# Altium footprint library LTST-C190KGKT.PcbLib: 3 footprints
Each footprint in its own frame and in the unit in brackets; x right, y up, seen from the top. Pads: shape width x height; smd on the part's side, far side on the other; paste and mask are expansions set on the pad; w line width, h text height; cw(c..) or ccw(c..) is an arc to the next point about the centre after c.
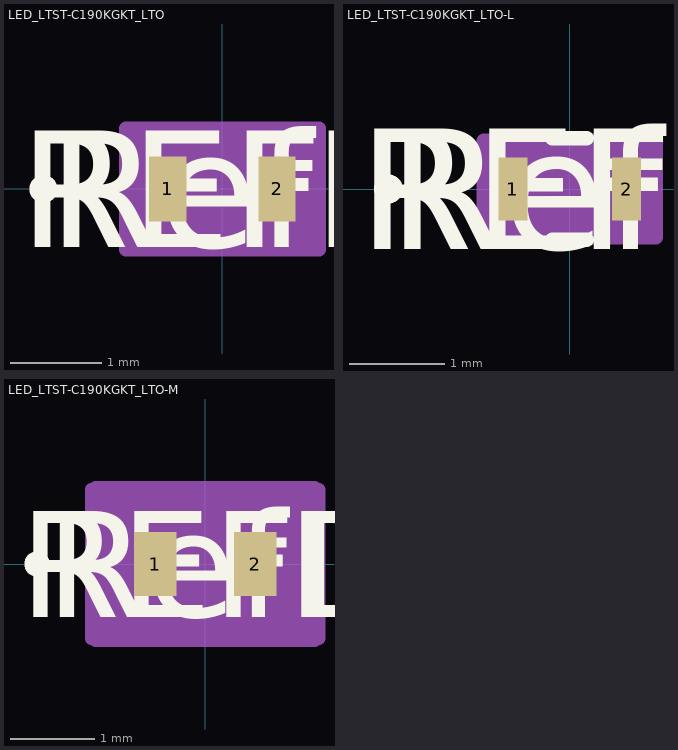
[diagram p0: the footprints below, top view; thin cyan lines are the x and y axes]

## LED_LTST-C190KGKT_LTO [mil]
pads (2):
  rect 16x28 smd paste+0 mask+0: 1(-23.5,0) 2(23.5,0)
Top Overlay:
  circle w6: c-77,0 r3
  text "REFDES" at -87.5,-25 h50
  text "RefDes" at -75,-25 h50
Mechanical 13:
  circle w0: c0,0 r3
  lines w1: -31.5,-16 31.5,-16 31.5,16 -31.5,16 -31.5,-16
  text "RefDes2" at -87.5,-25 h50
Mechanical 15:
  region: -41.5,-24 -41.5,24 -41.5,26 41.5,26 41.5,24 41.5,-24 41.5,-26 -41.5,-26
  lines w6: -41.5,-24 -41.5,24 ; -41.5,-24 -41.5,-24 ; -41.5,-24 -41.5,-26 41.5,-26 41.5,-24 ; -41.5,24 -41.5,24 ; -41.5,24 -41.5,26 41.5,26 41.5,24 ; 41.5,-24 41.5,24 ; 41.5,-24 41.5,-24 ; 41.5,24 41.5,24
3D body "LED_LTST-C190KGKT_LTO.step": height 32.09, standoff 0, extent -31.5,-15.98 31.5,15.98

## LED_LTST-C190KGKT_LTO-L [mil]
pads (2):
  rect 12x26 smd paste+0 mask+0: 1(-23.5,0) 2(23.5,0)
Top Overlay:
  circle w6: c-75,0 r3
  lines w6: -7.13,-21 7.13,-21 ; -7.13,21 7.13,21
  text "REFDES" at -87.5,-25 h50
  text "RefDes" at -75,-25 h50
Mechanical 13:
  circle w0: c0,0 r3
  lines w1: -31.5,-16 31.5,-16 31.5,16 -31.5,16 -31.5,-16
  text "RefDes2" at -87.5,-25 h50
Mechanical 15:
  region: -35.5,-17 -35.5,17 -35.5,20 35.5,20 35.5,17 35.5,-17 35.5,-20 -35.5,-20
  lines w6: -35.5,-17 -35.5,17 ; -35.5,-17 -35.5,-17 ; -35.5,-17 -35.5,-20 35.5,-20 35.5,-17 ; -35.5,17 -35.5,17 ; -35.5,17 -35.5,20 35.5,20 35.5,17 ; 35.5,-17 35.5,17 ; 35.5,-17 35.5,-17 ; 35.5,17 35.5,17
3D body "LED_LTST-C190KGKT_LTO.step": height 32.09, standoff 0, extent -31.5,-15.98 31.5,15.98

## LED_LTST-C190KGKT_LTO-M [mil]
pads (2):
  rect 20x30 smd paste+0 mask+0: 1(-23.5,0) 2(23.5,0)
Top Overlay:
  circle w6: c-79,0 r3
  text "REFDES" at -87.5,-25 h50
  text "RefDes" at -75,-25 h50
Mechanical 13:
  circle w0: c0,0 r3
  lines w1: -31.5,-16 31.5,-16 31.5,16 -31.5,16 -31.5,-16
  text "RefDes2" at -87.5,-25 h50
Mechanical 15:
  region: -51.5,-35 -53.5,-35 -53.5,35 -51.5,35 -51.5,36 51.5,36 51.5,35 53.5,35 53.5,-35 51.5,-35 51.5,-36 -51.5,-36
  lines w6: -53.5,-35 -53.5,35 -51.5,35 -51.5,36 51.5,36 51.5,35 53.5,35 53.5,-35 51.5,-35 51.5,-36 -51.5,-36 -51.5,-35 -53.5,-35
3D body "LED_LTST-C190KGKT_LTO.step": height 32.09, standoff 0, extent -31.5,-15.98 31.5,15.98